# EAGLE library part SX1276 (library angrypig7-IC)
RF Transceiver FSK/GFSK/MSK/GMSK/LoRa/OOK 137MHz to 1020MHz 28-Pin QFN
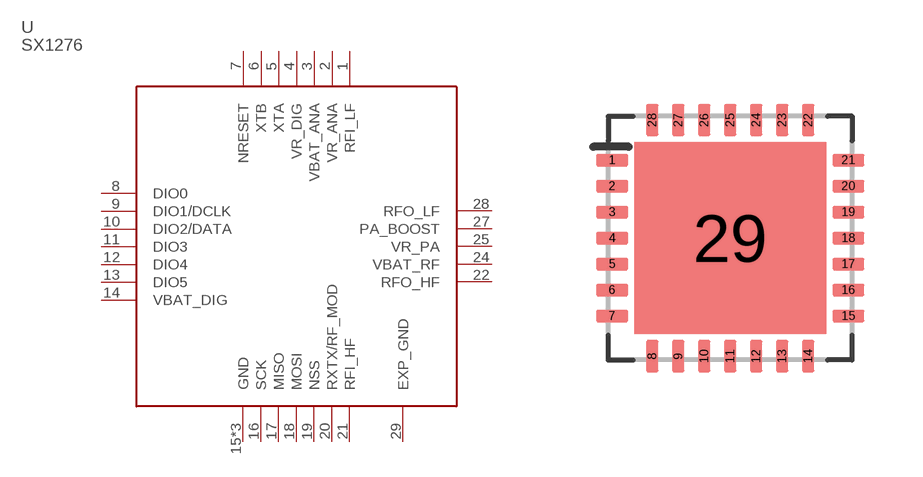
[diagram p10: symbol with the pads of QFN28; footprint QFN28]

Designator prefix U

## SX1276  [QFN28]
1  RFI_LF  in
2  VR_ANA  pwr
3  VBAT_ANA  pwr
4  VR_DIG  pwr
5  XTA
6  XTB
7  NRESET
8  DIO0
9  DIO1/DCLK
10  DIO2/DATA
11  DIO3
12  DIO4
13  DIO5
14  VBAT_DIG  pwr
15  GND  pwr
16  SCK  in
17  MISO  out
18  MOSI  in
19  NSS  in
20  RXTX/RF_MOD  out
21  RFI_HF  in
22  RFO_HF  out
23  GND  pwr
24  VBAT_RF  pwr
25  VR_PA  pwr
26  GND  pwr
27  PA_BOOST  out
28  RFO_LF  out
29  EXP_GND  pwr

## Footprint QFN28 (pad centres in mm)
smd 0.81 x 0.32: 1 -2.955,1.95; 2 -2.955,1.3; 3 -2.955,0.65; 4 -2.955,0; 5 -2.955,-0.65; 6 -2.955,-1.3; 7 -2.955,-1.95; 15 2.955,-1.95; 16 2.955,-1.3; 17 2.955,-0.65; 18 2.955,0; 19 2.955,0.65; 20 2.955,1.3; 21 2.955,1.95
smd 0.32 x 0.81: 8 -1.95,-2.955; 9 -1.3,-2.955; 10 -0.65,-2.955; 11 0,-2.955; 12 0.65,-2.955; 13 1.3,-2.955; 14 1.95,-2.955; 22 1.95,2.955; 23 1.3,2.955; 24 0.65,2.955; 25 0,2.955; 26 -0.65,2.955; 27 -1.3,2.955; 28 -1.95,2.955
smd 4.8 x 4.8: 29 0,0